# Altium schematic symbol library MAIN_SCHEMATIC_LIBRARY.SchLib: 1 symbol
Pins are listed as number, name and electrical type; pins without a type are passive.

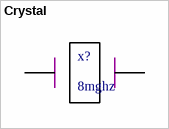
[diagram p0: symbol Crystal]

## Crystal
designator x?, comment 8mghz
8mghz crystal
pins: 1, 2